# Altium footprint library Nixie.PcbLib: 24 footprints (part 2 of 2)
Each footprint in its own frame and in the unit in brackets; x right, y up, seen from the top. Pads: shape width x height; smd on the part's side, far side on the other; paste and mask are expansions set on the pad; w line width, h text height; cw(c..) or ccw(c..) is an arc to the next point about the centre after c.
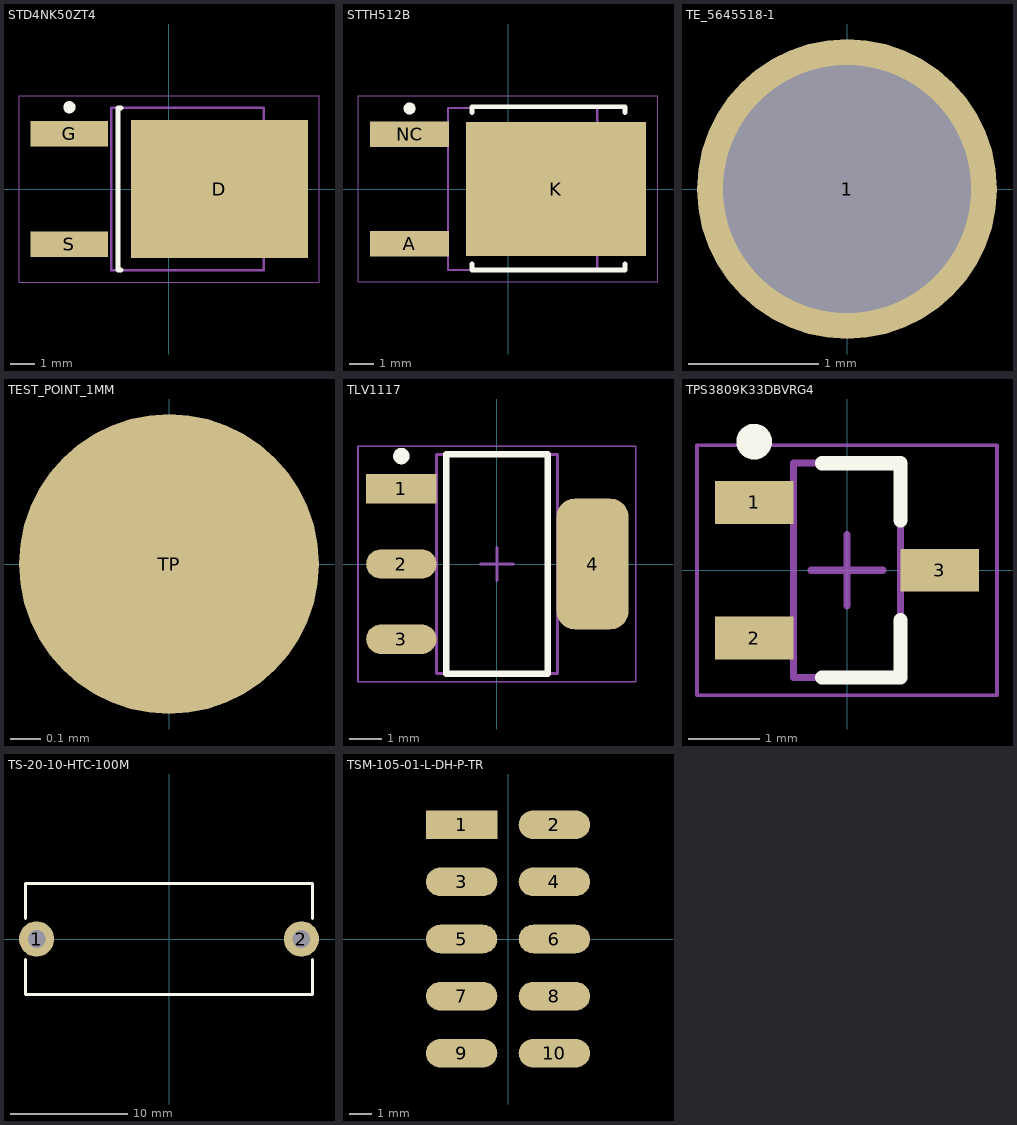
[diagram p1: the footprints below, top view; thin cyan lines are the x and y axes]

## STD4NK50ZT4 [mm] "D-PAK, 3-Pads, Body 6,20x6,66mm (max), IPC Low Density"
height 2.4
pads (3):
  rect 7.2x5.6 smd: D(2.05,0)
  rect 3.15x1.05 smd: G(-4.05,2.25) S(-4.05,-2.25)
Top Overlay:
  circle w0.25: c-4.05,3.325 r0.125
  lines w0.2: -1.95,-3.3 -2.075,-3.3 -2.075,3.3 -1.95,3.3
Mechanical 13:
  lines w0.1: -2.35,-3.3 -2.35,3.3 3.85,3.3 3.85,-3.3 -2.35,-3.3
Mechanical 15:
  lines w0.05: -6.1,-3.8 -6.1,3.8 6.1,3.8 6.1,-3.8 -6.1,-3.8
  lines w0.1: -0.5,0 0.5,0 ; 0,-0.5 0,0.5
3D body "DPAK225P972X240-3M.step": height 2.43, standoff 0, extent -4.275,-3.3 5.45,3.3

## STTH512B [mm] "D-PAK, 3-Pads, Body 6,21x6,73mm (max), IPC Low Density"
height 2.4
pads (3):
  rect 3.3x1.05 smd: A(-4.1,-2.28) NC(-4.1,2.28)
  rect 7.5x5.6 smd: K(2,0)
Top Overlay:
  circle w0.25: c-4.1,3.355 r0.125
  lines w0.2: -1.5,-3.125 -1.5,-3.375 4.875,-3.375 4.875,-3.125 ; -1.5,3.175 -1.5,3.425 4.875,3.425 4.875,3.175
Mechanical 13:
  lines w0.1: -2.5,-3.375 -2.5,3.375 3.72,3.375 3.72,-3.375 -2.5,-3.375
Mechanical 15:
  lines w0.05: -6.25,-3.875 -6.25,3.875 6.25,3.875 6.25,-3.875 -6.25,-3.875
  lines w0.1: -0.5,0 0.5,0 ; 0,-0.5 0,0.5
3D body "DPAK228P988X240-3M.step": height 2.43, standoff 0, extent -4.47,-3.375 5.405,3.375

## TE_5645518-1 [mm] "Mini-spring socket"
height 0.5
pads (1):
  round 2.31 hole 1.91: 1(0,0)
3D body "TE_5645518-1.step": height 0.4, standoff -4.83, extent -1.143,-1.143 1.143,1.143

## TEST_POINT_1MM [mm] "1mm test point"
pads (1):
  round 1 smd paste-2: TP(0,0)

## TLV1117 [mm] "Low-Dropout Voltage Regulator"
height 1.8
pads (4):
  rect 2.15x0.9 smd: 1(-2.925,2.3)
  oval 2.15x0.9 smd: 2(-2.925,0) 3(-2.925,-2.3)
  rrect50% 2.2x4 smd: 4(2.925,0)
Top Overlay:
  circle w0.25: c-2.925,3.3 r0.125
  lines w0.2: -1.55,-3.35 1.55,-3.35 1.55,3.35 -1.55,3.35 -1.55,-3.35
Mechanical 13:
  lines w0.1: -1.85,-3.35 1.85,-3.35 1.85,3.35 -1.85,3.35 -1.85,-3.35
Mechanical 15:
  lines w0.05: -4.25,-3.6 4.25,-3.6 4.25,3.6 -4.25,3.6 -4.25,-3.6
  lines w0.1: -0.5,0 0.5,0 ; 0,-0.5 0,0.5
3D body "TLV1117.step": height 1.8, standoff 0, extent -3.5,-3.35 3.5,3.35

## TPS3809K33DBVRG4 [mm] "3.3V supervisor"
height 1.45
pads (3):
  rect 1.1x0.6 smd: 1(-1.3,0.95) 2(-1.3,-0.95) 3(1.3,0)
Top Overlay:
  circle w0.25: c-1.3,1.8 r0.125
  lines w0.2: -0.35,-1.5 0.75,-1.5 0.75,-0.7 ; -0.35,1.5 0.75,1.5 0.75,0.7
Mechanical 13:
  lines w0.1: -0.75,-1.5 0.75,-1.5 0.75,1.5 -0.75,1.5 -0.75,-1.5
Mechanical 15:
  lines w0.05: -2.1,-1.75 2.1,-1.75 2.1,1.75 -2.1,1.75 -2.1,-1.75
  lines w0.1: -0.5,0 0.5,0 ; 0,-0.5 0,0.5
3D body "TPS3809K33DBVRG4.step": height 1.45, standoff 0, extent -1.5,-1.5 1.5,1.5

## TS-20-10-HTC-100M [mm] "Fuse holder"
height 13.3
pads (2):
  round 3 hole 1.5: 1(-11.3,0) 2(11.3,0)
Top Overlay:
  lines w0.254: -12.25,-1.75 -12.25,-4.75 12.25,-4.75 12.25,-1.75 ; -12.25,1.75 -12.25,4.75 12.25,4.75 12.25,1.75
3D body "TS-20-10-HTC-100M.step": height 13.3, standoff -2.5, extent -12.2,-4.7 12.2,4.7

## TSM-105-01-L-DH-P-TR [mm] "Male Connector, 2x5 pins, 2.54 mm, right angle"
height 6.1
pads (10):
  rect 3.175x1.27 smd: 1(-2.064,5.08)
  oval 3.175x1.27 smd: 2(2.064,5.08) 3(-2.064,2.54) 4(2.064,2.54) 5(-2.064,0) 6(2.064,0) 7(-2.064,-2.54) 8(2.064,-2.54) 9(-2.064,-5.08) 10(2.064,-5.08)
3D body "TSM-105-01-L-DH.stp": height 6.1, standoff 0, extent -3.016,-6.35 13.24,6.35